# EAGLE library part 99NONSTANDARD_EFD20_SMD_10PIN (library Wurth Electronics Midcom Inc V1-0)
Package Style: Non-Standard EFD20 Mounting: SMD Pins: 10 pins Bobbin: 070-4418 Best pinouts for production vary per application. Please contact Wurth Electronics Midcom, Inc. for assistance with your custom design. Website: Wurth Electronics Midcom <http://www.we-online.com/midcom> Contact us Wurth Electronics Midcom, Inc. 121 Airport Dr. Watertown, SD 57201 Phone: (605) 886-4385 Fax: (605) 886-4486 E-Mail: midcom@we-online.com
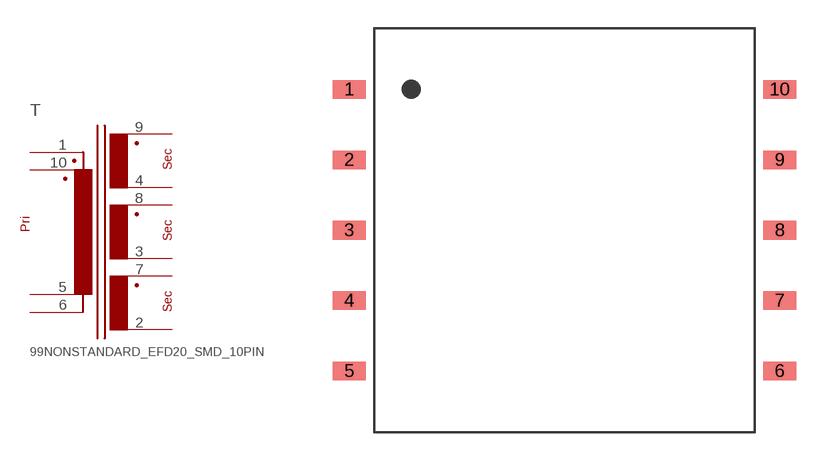
[diagram p135: symbol with the pads of 99NONSTANDARD_EFD20_SMD_10PIN; footprint 99NONSTANDARD_EFD20_SMD_10PIN]

Designator prefix T

## 99NONSTANDARD_EFD20_SMD_10PIN  [99NONSTANDARD_EFD20_SMD_10PIN]
1  1  pas
2  10  pas
3  8  pas
4  6  pas
5  4  pas
6  2  pas
7  9  pas
8  7  pas
9  5  pas
10  3  pas

## Footprint 99NONSTANDARD_EFD20_SMD_10PIN (pad centres in mm)
Package Style: Speedy EFD20 Mounting: SMD Pins: 10 pins Bobbin: 070-4290-LF
smd 1.778 x 0.991: 1 -11.493,7.518; 2 -11.493,3.759; 3 -11.493,0; 4 -11.493,-3.759; 5 -11.493,-7.518; 6 11.493,-7.518; 7 11.493,-3.759; 8 11.493,0; 9 11.493,3.759; 10 11.493,7.518